# Altium footprint library PJ-W17-03.PcbLib: 1 footprints
Each footprint in its own frame and in the unit in brackets; x right, y up, seen from the top. Pads: shape width x height; smd on the part's side, far side on the other; paste and mask are expansions set on the pad; w line width, h text height; cw(c..) or ccw(c..) is an arc to the next point about the centre after c.
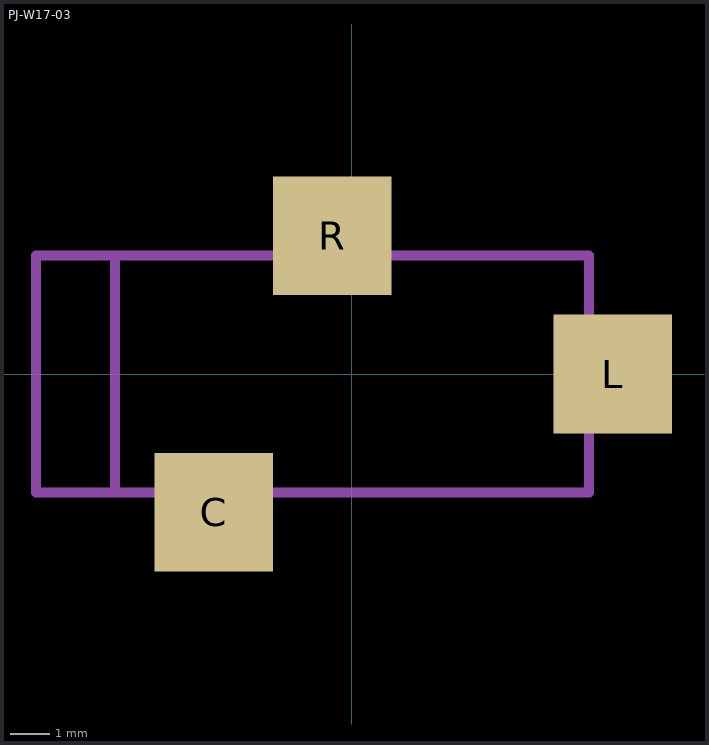
[diagram p0: the footprint, top view; thin cyan lines are the x and y axes]

## PJ-W17-03 [mm]
pads (3):
  rect 3x3 smd: C(-3.5,-3.5) L(6.604,0) R(-0.5,3.5)
Mechanical 13:
  lines w0.254: -6,-3 -8,-3 -8,3 -6,3 ; -6,-3 -6,3 ; -6,-3 0,-3 6,-3 6,3 -6,3
  text ".Designator" at -3.683,0 h1.52
3D body: height 5.79, standoff 0.21, extent -8,-2.8 -6,2.778
3D body: height 5, standoff 0, extent -5.999,-2.999 5.999,2.999